# Altium schematic symbol library Other-PJ-313D-B-SMT.SchLib: 1 symbol
Pins are listed as number, name and electrical type; pins without a type are passive.

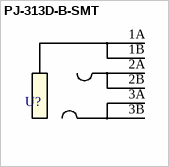
[diagram p0: symbol PJ-313D-B-SMT]

## PJ-313D-B-SMT
designator U?  (no BOM)
pins: 1A, 1B, 2A, 2B, 3A, 3B